# Altium footprint library RESC320X160X71L50N.PcbLib: 1 footprints
Each footprint in its own frame and in the unit in brackets; x right, y up, seen from the top. Pads: shape width x height; smd on the part's side, far side on the other; paste and mask are expansions set on the pad; w line width, h text height; cw(c..) or ccw(c..) is an arc to the next point about the centre after c.
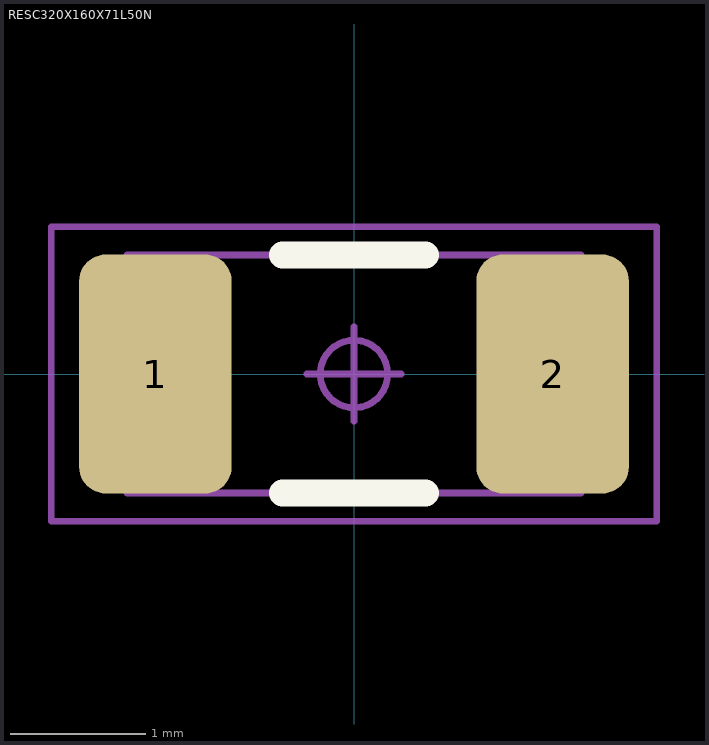
[diagram p0: the footprint, top view; thin cyan lines are the x and y axes]

## RESC320X160X71L50N [mm] "Resistor, Chip; 3.20 mm L X 1.60 mm W X 0.71 mm H body"
height 0.71
pads (2):
  rrect35% 1.13x1.77 smd mask+0.05: 1(-1.47,0) 2(1.47,0)
Top Overlay:
  lines w0.2: -0.53,-0.88 0.53,-0.88 ; -0.53,0.88 0.53,0.88
Mechanical 11:
  lines w0.05: -1.68,-0.88 -1.68,0.88 1.68,0.88 1.68,-0.88 -1.68,-0.88
Mechanical 15:
  circle w0.05: c0,0 r0.25
  lines w0.05: -0.35,0 0.35,0 ; 0,-0.35 0,0.35 ; -2.24,-1.09 -2.24,1.09 2.24,1.09 2.24,-1.09 -2.24,-1.09
3D body "RESC320X160X71L50.STEP": height 0.71, standoff 0, extent -1.675,-0.875 1.675,0.875